# Altium integrated library TI Logic Flip-Flop.IntLib: 904 symbols (part 14 of 21)
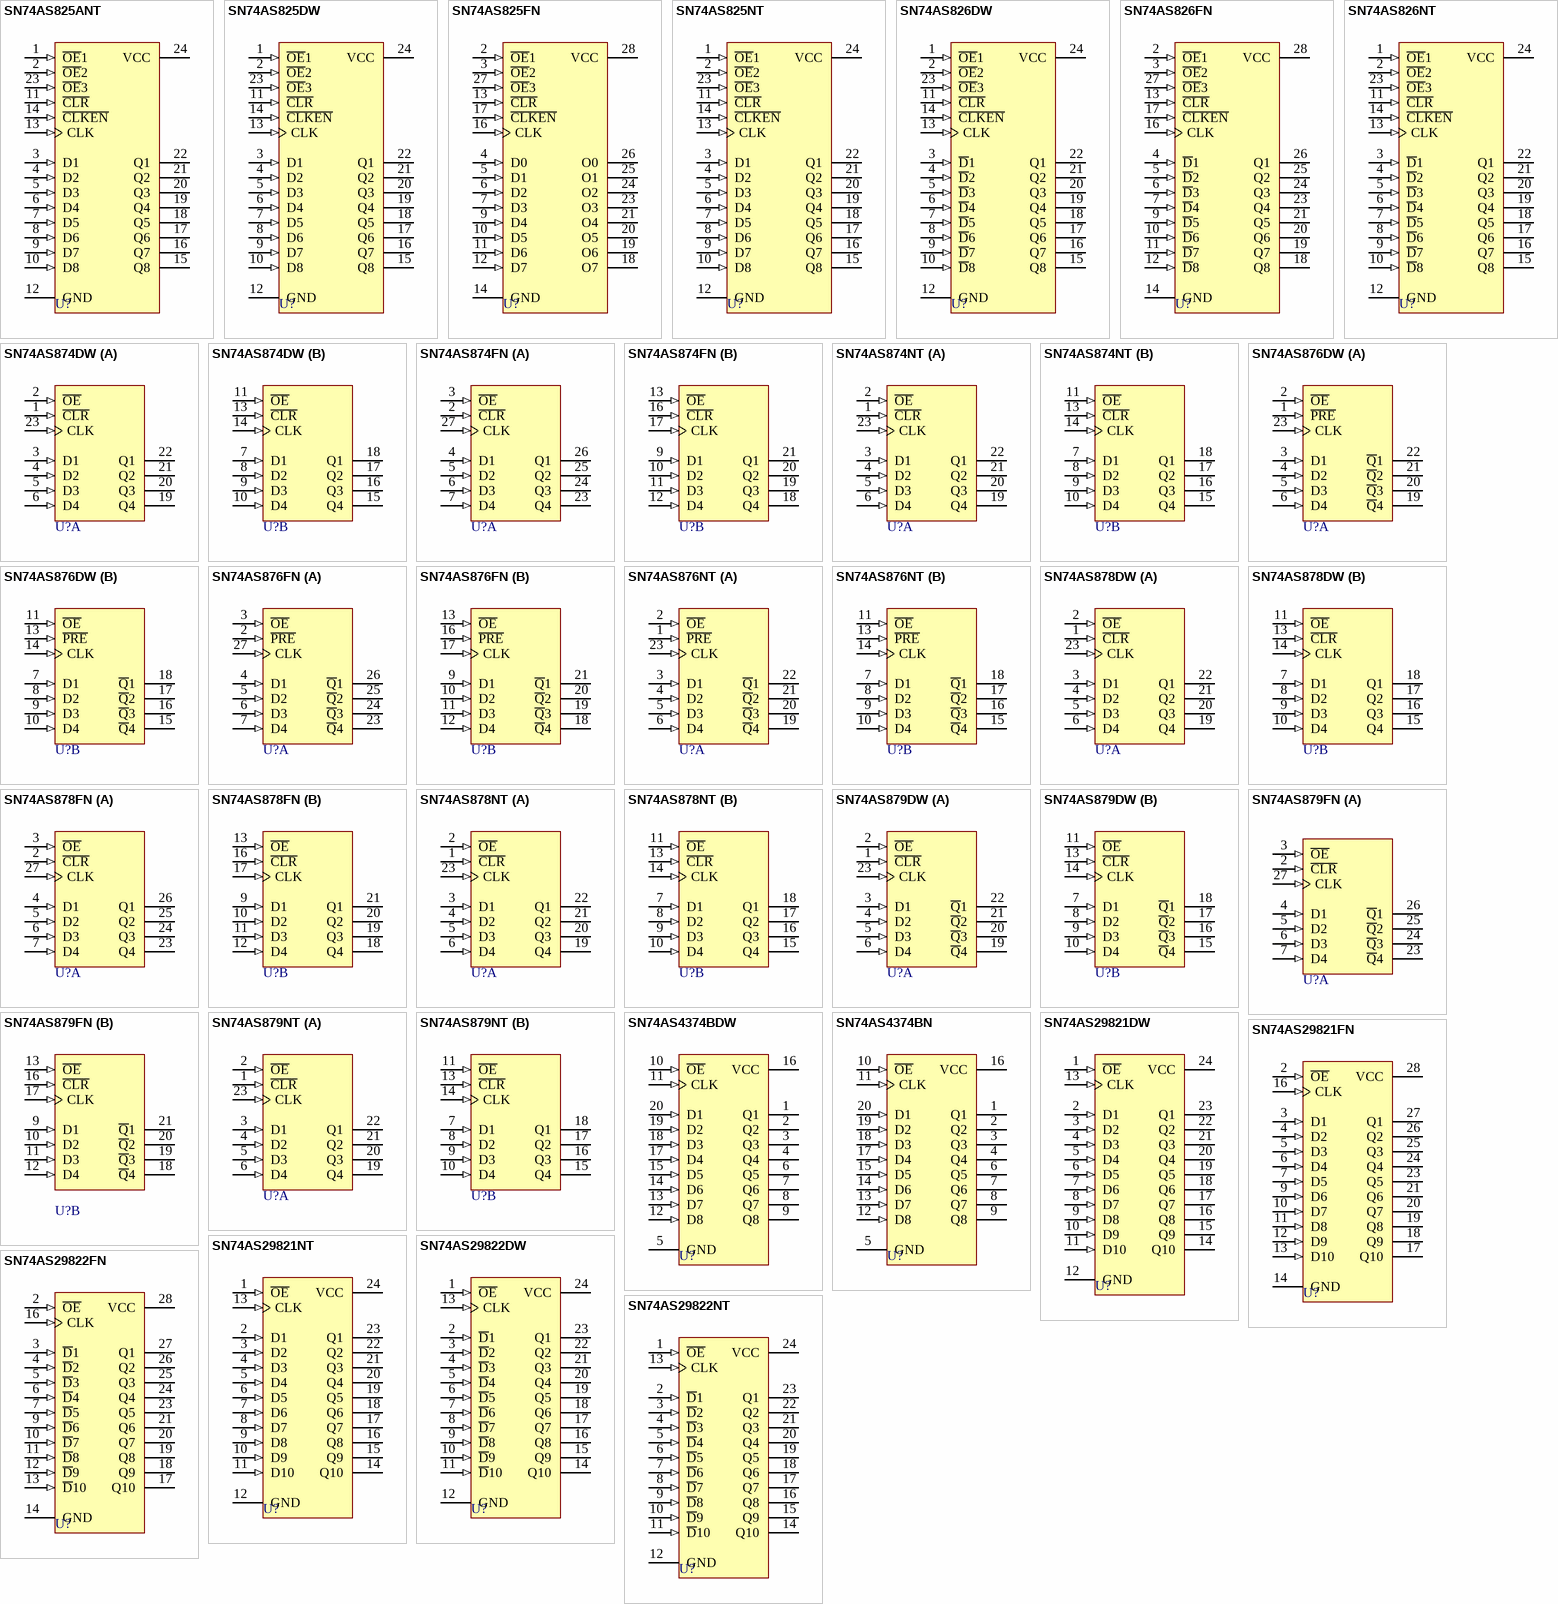
[diagram p48: symbols SN74AS825ANT to SN74AS29822NT]

## SN74AS878DW
designator U?
Dual 4-Bit D-Type Edge-Triggered Flip-Flop with 3-State Outputs; ComponentAvailability: Obsolete; Published: 8-Jun-2000; LatestRevisionDate: 13-Apr-2006; LatestRevisionNote: IPC-7351 Footprint Added.; DatasheetVersion: May-1986; PackageVersion: Mar-2000; PackageReference: DW024; Publisher: Altium Limited; PackageDescription: 24-Pin Plastic Small Outline Integrated Circuit 1.27 mm Pitch; Code_JEDEC: MS-013; ComponentLink1Description: Manufacturer Link; ComponentLink1URL: http://www.ti.com/; ComponentLink2Description: Datasheet; ComponentLink2URL: http://www-s.ti.com/sc/ds/sn74als878a.pdf; ComponentLink3Description: Discontinuation Notice; ComponentLink3URL: http://focus.ti.com/docs/prod/folders/print/sn74as878.html
footprint DW024_N (SOIC, 24-Leads, Body 15.4x7.5mm, Pitch 1.27mm, IPC Medium Density)
footprint DW024_L (SOIC, 24-Leads, Body 15.4x7.5mm, Pitch 1.27mm, IPC High Density)
footprint DW024_M (SOIC, 24-Leads, Body 15.4x7.5mm, Pitch 1.27mm, IPC Low Density)
3D model DW024 (24-Pin Plastic Small Outline Integrated Circuit 1.27 mm Pitch)
signal-integrity model SN74AS878DW
pins on every part: 12 GND (power) hidden to GND, 24 VCC (power) hidden to VCC
part A pins: 1 ~{CLR} (in), 2 ~{OE} (in), 3 D1 (in), 4 D2 (in), 5 D3 (in), 6 D4 (in), 19 Q4 (hiz), 20 Q3 (hiz), 21 Q2 (hiz), 22 Q1 (hiz), 23 CLK (in)
part B pins: 7 D1 (in), 8 D2 (in), 9 D3 (in), 10 D4 (in), 11 ~{OE} (in), 13 ~{CLR} (in), 14 CLK (in), 15 Q4 (hiz), 16 Q3 (hiz), 17 Q2 (hiz), 18 Q1 (hiz)

## SN74AS878FN
designator U?
Dual 4-Bit D-Type Edge-Triggered Flip-Flop with 3-State Outputs; Note: Pins 1, 8, 15, and 22 are not connected; Published: 8-Jun-2000; LatestRevisionDate: 13-Apr-2006; LatestRevisionNote: IPC-7351 Footprint Added.; DatasheetVersion: May-1986; PackageVersion: Oct-1994; PackageReference: FN028; Publisher: Altium Limited; PackageDescription: 28-Pin Leaded Chip Carrier 1.27 mm Pitch; Code_JEDEC: MS-018; Code_IPC: PLCC-28; ComponentLink1Description: Manufacturer Link; ComponentLink1URL: http://www.ti.com/; ComponentLink2Description: Datasheet; ComponentLink2URL: http://focus.ti.com/lit/ds/sdas062a/sdas062a.pdf
footprint FN028_N (Leaded Chip Carrier, 28-Leads, Body 11.5x11.5mm, Pitch 1.27mm, IPC Medium Density)
footprint FN028_L (Leaded Chip Carrier, 28-Leads, Body 11.5x11.5mm, Pitch 1.27mm, IPC High Density)
footprint FN028_M (Leaded Chip Carrier, 28-Leads, Body 11.5x11.5mm, Pitch 1.27mm, IPC Low Density)
3D model SN74AS878-FN028 (28-Pin Leaded Chip Carrier 1.27 mm Pitch)
signal-integrity model SN74AS878FN
pins on every part: 14 GND (power) hidden to GND, 28 VCC (power) hidden to VCC
part A pins: 2 ~{CLR} (in), 3 ~{OE} (in), 4 D1 (in), 5 D2 (in), 6 D3 (in), 7 D4 (in), 23 Q4 (hiz), 24 Q3 (hiz), 25 Q2 (hiz), 26 Q1 (hiz), 27 CLK (in)
part B pins: 9 D1 (in), 10 D2 (in), 11 D3 (in), 12 D4 (in), 13 ~{OE} (in), 16 ~{CLR} (in), 17 CLK (in), 18 Q4 (hiz), 19 Q3 (hiz), 20 Q2 (hiz), 21 Q1 (hiz)

## SN74AS878NT
designator U?
Dual 4-Bit D-Type Edge-Triggered Flip-Flop with 3-State Outputs; ComponentAvailability: Obsolete; Published: 8-Jun-2000; LatestRevisionDate: 04-Mar-2005; LatestRevisionNote: Stylized 3D Model Added.; DatasheetVersion: May-1986; PackageVersion: Oct-1994; PackageReference: NT024; Publisher: Altium Limited; PackageDescription: DIP; 24 Leads; Row Spacing 7.62 mm; Pitch 2.54 mm; Code_JEDEC: MS-001-AF; ComponentLink1Description: Manufacturer Link; ComponentLink1URL: http://www.ti.com/; ComponentLink2Description: Datasheet; ComponentLink2URL: http://www-s.ti.com/sc/ds/sn74als878a.pdf; ComponentLink3Description: Discontinuation Notice; ComponentLink3URL: http://focus.ti.com/docs/prod/folders/print/sn74as878.html
footprint NT024 (DIP; 24 Leads; Row Spacing 7.62 mm; Pitch 2.54 mm)
3D model JT024 (DIP; 24 Leads; Row Spacing 7.62 mm; Pitch 2.54 mm)
signal-integrity model SN74AS878NT
pins on every part: 12 GND (power) hidden to GND, 24 VCC (power) hidden to VCC
part A pins: 1 ~{CLR} (in), 2 ~{OE} (in), 3 D1 (in), 4 D2 (in), 5 D3 (in), 6 D4 (in), 19 Q4 (hiz), 20 Q3 (hiz), 21 Q2 (hiz), 22 Q1 (hiz), 23 CLK (in)
part B pins: 7 D1 (in), 8 D2 (in), 9 D3 (in), 10 D4 (in), 11 ~{OE} (in), 13 ~{CLR} (in), 14 CLK (in), 15 Q4 (hiz), 16 Q3 (hiz), 17 Q2 (hiz), 18 Q1 (hiz)

## SN74AS879DW
designator U?
Dual 4-Bit D-Type Edge-Triggered Flip-Flop with 3-State Outputs; Published: 8-Jun-2000; LatestRevisionDate: 13-Apr-2006; LatestRevisionNote: IPC-7351 Footprint Added.; DatasheetVersion: May-1986; PackageVersion: Mar-2000; PackageReference: DW024; Publisher: Altium Limited; PackageDescription: 24-Pin Plastic Small Outline Integrated Circuit 1.27 mm Pitch; Code_JEDEC: MS-013; ComponentLink1Description: Manufacturer Link; ComponentLink1URL: http://www.ti.com/; ComponentLink2Description: Datasheet; ComponentLink2URL: http://focus.ti.com/lit/ds/sdas062a/sdas062a.pdf
footprint DW024_N (SOIC, 24-Leads, Body 15.4x7.5mm, Pitch 1.27mm, IPC Medium Density)
footprint DW024_L (SOIC, 24-Leads, Body 15.4x7.5mm, Pitch 1.27mm, IPC High Density)
footprint DW024_M (SOIC, 24-Leads, Body 15.4x7.5mm, Pitch 1.27mm, IPC Low Density)
3D model DW024 (24-Pin Plastic Small Outline Integrated Circuit 1.27 mm Pitch)
signal-integrity model SN74AS879DW
pins on every part: 12 GND (power) hidden to GND, 24 VCC (power) hidden to VCC
part A pins: 1 ~{CLR} (in), 2 ~{OE} (in), 3 D1 (in), 4 D2 (in), 5 D3 (in), 6 D4 (in), 19 ~{Q}4 (hiz), 20 ~{Q}3 (hiz), 21 ~{Q}2 (hiz), 22 ~{Q}1 (hiz), 23 CLK (in)
part B pins: 7 D1 (in), 8 D2 (in), 9 D3 (in), 10 D4 (in), 11 ~{OE} (in), 13 ~{CLR} (in), 14 CLK (in), 15 ~{Q}4 (hiz), 16 ~{Q}3 (hiz), 17 ~{Q}2 (hiz), 18 ~{Q}1 (hiz)

## SN74AS879FN
designator U?
Dual 4-Bit D-Type Edge-Triggered Flip-Flop with 3-State Outputs; Note: Pins 1, 8, 15, and 22 are not connected; Published: 8-Jun-2000; LatestRevisionDate: 13-Apr-2006; LatestRevisionNote: IPC-7351 Footprint Added.; DatasheetVersion: May-1986; PackageVersion: Oct-1994; PackageReference: FN028; Publisher: Altium Limited; PackageDescription: 28-Pin Leaded Chip Carrier 1.27 mm Pitch; Code_JEDEC: MS-018; Code_IPC: PLCC-28; ComponentLink1Description: Manufacturer Link; ComponentLink1URL: http://www.ti.com/; ComponentLink2Description: Datasheet; ComponentLink2URL: http://focus.ti.com/lit/ds/sdas062a/sdas062a.pdf
footprint FN028_N (Leaded Chip Carrier, 28-Leads, Body 11.5x11.5mm, Pitch 1.27mm, IPC Medium Density)
footprint FN028_L (Leaded Chip Carrier, 28-Leads, Body 11.5x11.5mm, Pitch 1.27mm, IPC High Density)
footprint FN028_M (Leaded Chip Carrier, 28-Leads, Body 11.5x11.5mm, Pitch 1.27mm, IPC Low Density)
3D model SN74AS879-FN028 (28-Pin Leaded Chip Carrier 1.27 mm Pitch)
signal-integrity model SN74AS879FN
pins on every part: 14 GND (power) hidden to GND, 28 VCC (power) hidden to VCC
part A pins: 2 ~{CLR} (in), 3 ~{OE} (in), 4 D1 (in), 5 D2 (in), 6 D3 (in), 7 D4 (in), 23 ~{Q}4 (hiz), 24 ~{Q}3 (hiz), 25 ~{Q}2 (hiz), 26 ~{Q}1 (hiz), 27 CLK (in)
part B pins: 9 D1 (in), 10 D2 (in), 11 D3 (in), 12 D4 (in), 13 ~{OE} (in), 16 ~{CLR} (in), 17 CLK (in), 18 ~{Q}4 (hiz), 19 ~{Q}3 (hiz), 20 ~{Q}2 (hiz), 21 ~{Q}1 (hiz)

## SN74AS879NT
designator U?
Dual 4-Bit D-Type Edge-Triggered Flip-Flop with 3-State Outputs; ComponentAvailability: Obsolete; Published: 8-Jun-2000; LatestRevisionDate: 04-Mar-2005; LatestRevisionNote: Stylized 3D Model Added.; DatasheetVersion: May-1986; PackageVersion: Oct-1994; PackageReference: NT024; Publisher: Altium Limited; PackageDescription: DIP; 24 Leads; Row Spacing 7.62 mm; Pitch 2.54 mm; Code_JEDEC: MS-001-AF; ComponentLink1Description: Manufacturer Link; ComponentLink1URL: http://www.ti.com/; ComponentLink2Description: Datasheet; ComponentLink2URL: http://www-s.ti.com/sc/ds/sn74als878a.pdf; ComponentLink3Description: Discontinuation Notice; ComponentLink3URL: http://focus.ti.com/docs/prod/folders/print/sn74as879.html
footprint NT024 (DIP; 24 Leads; Row Spacing 7.62 mm; Pitch 2.54 mm)
3D model JT024 (DIP; 24 Leads; Row Spacing 7.62 mm; Pitch 2.54 mm)
signal-integrity model SN74AS879NT
pins on every part: 12 GND (power) hidden to GND, 24 VCC (power) hidden to VCC
part A pins: 1 ~{CLR} (in), 2 ~{OE} (in), 3 D1 (in), 4 D2 (in), 5 D3 (in), 6 D4 (in), 19 Q4 (hiz), 20 Q3 (hiz), 21 Q2 (hiz), 22 Q1 (hiz), 23 CLK (in)
part B pins: 7 D1 (in), 8 D2 (in), 9 D3 (in), 10 D4 (in), 11 ~{OE} (in), 13 ~{CLR} (in), 14 CLK (in), 15 Q4 (hiz), 16 Q3 (hiz), 17 Q2 (hiz), 18 Q1 (hiz)

## SN74AS4374BDW
designator U?
Octal Edge-Triggered D-Type Dual-Rank Flip-Flop with 3-State Outputs; Published: 8-Jun-2000; LatestRevisionDate: 13-Apr-2006; LatestRevisionNote: IPC-7351 Footprint Added.; DatasheetVersion: Jan-1995; PackageVersion: Mar-2000; PackageReference: DW020; Publisher: Altium Limited; PackageDescription: 20-Pin Plastic Small Outline Integrated Circuit 1.27 mm Pitch; Code_JEDEC: MS-013; Code_IPC: SOIC127P1030-20; ComponentLink1Description: Manufacturer Link; ComponentLink1URL: http://www.ti.com/; ComponentLink2Description: Datasheet; ComponentLink2URL: http://www-s.ti.com/sc/ds/sn74as4374b.pdf
footprint DW020_N (SOIC, 20-Leads, Body 12.8x7.5mm, Pitch 1.27mm, IPC Medium Density)
footprint DW020_L (SOIC, 20-Leads, Body 12.8x7.5mm, Pitch 1.27mm, IPC High Density)
footprint DW020_M (SOIC, 20-Leads, Body 12.8x7.5mm, Pitch 1.27mm, IPC Low Density)
3D model DW020 (20-Pin Plastic Small Outline Integrated Circuit 1.27 mm Pitch)
signal-integrity model SN74AS4374BDW
pins: 1 Q1 (hiz), 2 Q2 (hiz), 3 Q3 (hiz), 4 Q4 (hiz), 5 GND (power), 6 Q5 (hiz), 7 Q6 (hiz), 8 Q7 (hiz), 9 Q8 (hiz), 10 ~{OE} (in), 11 CLK (in), 12 D8 (in), 13 D7 (in), 14 D6 (in), 15 D5 (in), 16 VCC (power), 17 D4 (in), 18 D3 (in), 19 D2 (in), 20 D1 (in)

## SN74AS4374BN
designator U?
Octal Edge-Triggered D-Type Dual-Rank Flip-Flop with 3-State Outputs; Published: 8-Jun-2000; LatestRevisionDate: 04-Mar-2005; LatestRevisionNote: Stylized 3D Model Added.; DatasheetVersion: Jan-1995; PackageVersion: Oct-1995; PackageReference: N020; Publisher: Altium Limited; PackageDescription: DIP; 20 Leads; Row Spacing 7.62 mm; Pitch 2.54 mm; ComponentLink1Description: Manufacturer Link; ComponentLink1URL: http://www.ti.com/; ComponentLink2Description: Datasheet; ComponentLink2URL: http://www-s.ti.com/sc/ds/sn74as4374b.pdf
footprint N020 (DIP; 20 Leads; Row Spacing 7.62 mm; Pitch 2.54 mm)
3D model J020 (DIP; 20 Leads; Row Spacing 7.62 mm; Pitch 2.54 mm)
signal-integrity model SN74AS4374BN
pins: 1 Q1 (hiz), 2 Q2 (hiz), 3 Q3 (hiz), 4 Q4 (hiz), 5 GND (power), 6 Q5 (hiz), 7 Q6 (hiz), 8 Q7 (hiz), 9 Q8 (hiz), 10 ~{OE} (in), 11 CLK (in), 12 D8 (in), 13 D7 (in), 14 D6 (in), 15 D5 (in), 16 VCC (power), 17 D4 (in), 18 D3 (in), 19 D2 (in), 20 D1 (in)

## SN74AS29821DW
designator U?
10-Bit Bus-Interface Flip-Flop with 3-State Outputs; Published: 8-Jun-2000; LatestRevisionDate: 13-Apr-2006; LatestRevisionNote: IPC-7351 Footprint Added.; DatasheetVersion: May-1986; PackageVersion: Mar-2000; PackageReference: DW024; Publisher: Altium Limited; PackageDescription: 24-Pin Plastic Small Outline Integrated Circuit 1.27 mm Pitch; Code_JEDEC: MS-013; ComponentLink1Description: Manufacturer Link; ComponentLink1URL: http://www.ti.com/
footprint DW024_N (SOIC, 24-Leads, Body 15.4x7.5mm, Pitch 1.27mm, IPC Medium Density)
footprint DW024_L (SOIC, 24-Leads, Body 15.4x7.5mm, Pitch 1.27mm, IPC High Density)
footprint DW024_M (SOIC, 24-Leads, Body 15.4x7.5mm, Pitch 1.27mm, IPC Low Density)
3D model DW024 (24-Pin Plastic Small Outline Integrated Circuit 1.27 mm Pitch)
signal-integrity model SN74AS29821DW
pins: 1 ~{OE} (in), 2 D1 (in), 3 D2 (in), 4 D3 (in), 5 D4 (in), 6 D5 (in), 7 D6 (in), 8 D7 (in), 9 D8 (in), 10 D9 (in), 11 D10 (in), 12 GND (power), 13 CLK (in), 14 Q10 (hiz), 15 Q9 (hiz), 16 Q8 (hiz), 17 Q7 (hiz), 18 Q6 (hiz), 19 Q5 (hiz), 20 Q4 (hiz), 21 Q3 (hiz), 22 Q2 (hiz), 23 Q1 (hiz), 24 VCC (power)

## SN74AS29821FN
designator U?
10-Bit Bus-Interface Flip-Flop with 3-State Outputs; Note: Pins 1, 8, 15, and 22 are not connected; Published: 8-Jun-2000; LatestRevisionDate: 13-Apr-2006; LatestRevisionNote: IPC-7351 Footprint Added.; DatasheetVersion: May-1986; PackageVersion: Oct-1994; PackageReference: FN028; Publisher: Altium Limited; PackageDescription: 28-Pin Leaded Chip Carrier 1.27 mm Pitch; Code_JEDEC: MS-018; Code_IPC: PLCC-28; ComponentLink1Description: Manufacturer Link; ComponentLink1URL: http://www.ti.com/
footprint FN028_N (Leaded Chip Carrier, 28-Leads, Body 11.5x11.5mm, Pitch 1.27mm, IPC Medium Density)
footprint FN028_L (Leaded Chip Carrier, 28-Leads, Body 11.5x11.5mm, Pitch 1.27mm, IPC High Density)
footprint FN028_M (Leaded Chip Carrier, 28-Leads, Body 11.5x11.5mm, Pitch 1.27mm, IPC Low Density)
3D model SN74AS29821-FN028 (28-Pin Leaded Chip Carrier 1.27 mm Pitch)
signal-integrity model SN74AS29821FN
pins: 2 ~{OE} (in), 3 D1 (in), 4 D2 (in), 5 D3 (in), 6 D4 (in), 7 D5 (in), 9 D6 (in), 10 D7 (in), 11 D8 (in), 12 D9 (in), 13 D10 (in), 14 GND (power), 16 CLK (in), 17 Q10 (hiz), 18 Q9 (hiz), 19 Q8 (hiz), 20 Q7 (hiz), 21 Q6 (hiz), 23 Q5 (hiz), 24 Q4 (hiz), 25 Q3 (hiz), 26 Q2 (hiz), 27 Q1 (hiz), 28 VCC (power)

## SN74AS29821NT
designator U?
10-Bit Bus-Interface Flip-Flop with 3-State Outputs; Published: 8-Jun-2000; LatestRevisionDate: 04-Mar-2005; LatestRevisionNote: Stylized 3D Model Added.; DatasheetVersion: May-1986; PackageVersion: Oct-1994; PackageReference: NT024D; Publisher: Altium Limited; PackageDescription: DIP; 24 Leads; Row Spacing 7.62 mm; Pitch 2.54 mm; Code_JEDEC: MS-001-AF; ComponentLink1Description: Manufacturer Link; ComponentLink1URL: http://www.ti.com/
footprint NT024D (DIP; 24 Leads; Row Spacing 7.62 mm; Pitch 2.54 mm)
3D model JT024 (DIP; 24 Leads; Row Spacing 7.62 mm; Pitch 2.54 mm)
signal-integrity model SN74AS29821NT
pins: 1 ~{OE} (in), 2 D1 (in), 3 D2 (in), 4 D3 (in), 5 D4 (in), 6 D5 (in), 7 D6 (in), 8 D7 (in), 9 D8 (in), 10 D9 (in), 11 D10 (in), 12 GND (power), 13 CLK (in), 14 Q10 (hiz), 15 Q9 (hiz), 16 Q8 (hiz), 17 Q7 (hiz), 18 Q6 (hiz), 19 Q5 (hiz), 20 Q4 (hiz), 21 Q3 (hiz), 22 Q2 (hiz), 23 Q1 (hiz), 24 VCC (power)

## SN74AS29822DW
designator U?
10-Bit Bus-Interface Flip-Flop with 3-State Outputs; Published: 8-Jun-2000; LatestRevisionDate: 13-Apr-2006; LatestRevisionNote: IPC-7351 Footprint Added.; DatasheetVersion: May-1986; PackageVersion: Mar-2000; PackageReference: DW024; Publisher: Altium Limited; PackageDescription: 24-Pin Plastic Small Outline Integrated Circuit 1.27 mm Pitch; Code_JEDEC: MS-013; ComponentLink1Description: Manufacturer Link; ComponentLink1URL: http://www.ti.com/
footprint DW024_N (SOIC, 24-Leads, Body 15.4x7.5mm, Pitch 1.27mm, IPC Medium Density)
footprint DW024_L (SOIC, 24-Leads, Body 15.4x7.5mm, Pitch 1.27mm, IPC High Density)
footprint DW024_M (SOIC, 24-Leads, Body 15.4x7.5mm, Pitch 1.27mm, IPC Low Density)
3D model DW024 (24-Pin Plastic Small Outline Integrated Circuit 1.27 mm Pitch)
signal-integrity model SN74AS29822DW
pins: 1 ~{OE} (in), 2 ~{D}1 (in), 3 ~{D}2 (in), 4 ~{D}3 (in), 5 ~{D}4 (in), 6 ~{D}5 (in), 7 ~{D}6 (in), 8 ~{D}7 (in), 9 ~{D}8 (in), 10 ~{D}9 (in), 11 ~{D}10 (in), 12 GND (power), 13 CLK (in), 14 Q10 (hiz), 15 Q9 (hiz), 16 Q8 (hiz), 17 Q7 (hiz), 18 Q6 (hiz), 19 Q5 (hiz), 20 Q4 (hiz), 21 Q3 (hiz), 22 Q2 (hiz), 23 Q1 (hiz), 24 VCC (power)

## SN74AS29822FN
designator U?
10-Bit Bus-Interface Flip-Flop with 3-State Outputs; Note: Pins 1, 8, 15, and 22 are not connected; Published: 8-Jun-2000; LatestRevisionDate: 13-Apr-2006; LatestRevisionNote: IPC-7351 Footprint Added.; DatasheetVersion: May-1986; PackageVersion: Oct-1994; PackageReference: FN028; Publisher: Altium Limited; PackageDescription: 28-Pin Leaded Chip Carrier 1.27 mm Pitch; Code_JEDEC: MS-018; Code_IPC: PLCC-28; ComponentLink1Description: Manufacturer Link; ComponentLink1URL: http://www.ti.com/
footprint FN028_N (Leaded Chip Carrier, 28-Leads, Body 11.5x11.5mm, Pitch 1.27mm, IPC Medium Density)
footprint FN028_L (Leaded Chip Carrier, 28-Leads, Body 11.5x11.5mm, Pitch 1.27mm, IPC High Density)
footprint FN028_M (Leaded Chip Carrier, 28-Leads, Body 11.5x11.5mm, Pitch 1.27mm, IPC Low Density)
3D model SN74AS29822-FN028 (28-Pin Leaded Chip Carrier 1.27 mm Pitch)
signal-integrity model SN74AS29822FN
pins: 2 ~{OE} (in), 3 ~{D}1 (in), 4 ~{D}2 (in), 5 ~{D}3 (in), 6 ~{D}4 (in), 7 ~{D}5 (in), 9 ~{D}6 (in), 10 ~{D}7 (in), 11 ~{D}8 (in), 12 ~{D}9 (in), 13 ~{D}10 (in), 14 GND (power), 16 CLK (in), 17 Q10 (hiz), 18 Q9 (hiz), 19 Q8 (hiz), 20 Q7 (hiz), 21 Q6 (hiz), 23 Q5 (hiz), 24 Q4 (hiz), 25 Q3 (hiz), 26 Q2 (hiz), 27 Q1 (hiz), 28 VCC (power)

## SN74AS29822NT
designator U?
10-Bit Bus-Interface Flip-Flop with 3-State Outputs; Published: 8-Jun-2000; LatestRevisionDate: 04-Mar-2005; LatestRevisionNote: Stylized 3D Model Added.; DatasheetVersion: May-1986; PackageVersion: Oct-1994; PackageReference: NT024D; Publisher: Altium Limited; PackageDescription: DIP; 24 Leads; Row Spacing 7.62 mm; Pitch 2.54 mm; Code_JEDEC: MS-001-AF; ComponentLink1Description: Manufacturer Link; ComponentLink1URL: http://www.ti.com/
footprint NT024D (DIP; 24 Leads; Row Spacing 7.62 mm; Pitch 2.54 mm)
3D model JT024 (DIP; 24 Leads; Row Spacing 7.62 mm; Pitch 2.54 mm)
signal-integrity model SN74AS29822NT
pins: 1 ~{OE} (in), 2 ~{D}1 (in), 3 ~{D}2 (in), 4 ~{D}3 (in), 5 ~{D}4 (in), 6 ~{D}5 (in), 7 ~{D}6 (in), 8 ~{D}7 (in), 9 ~{D}8 (in), 10 ~{D}9 (in), 11 ~{D}10 (in), 12 GND (power), 13 CLK (in), 14 Q10 (hiz), 15 Q9 (hiz), 16 Q8 (hiz), 17 Q7 (hiz), 18 Q6 (hiz), 19 Q5 (hiz), 20 Q4 (hiz), 21 Q3 (hiz), 22 Q2 (hiz), 23 Q1 (hiz), 24 VCC (power)

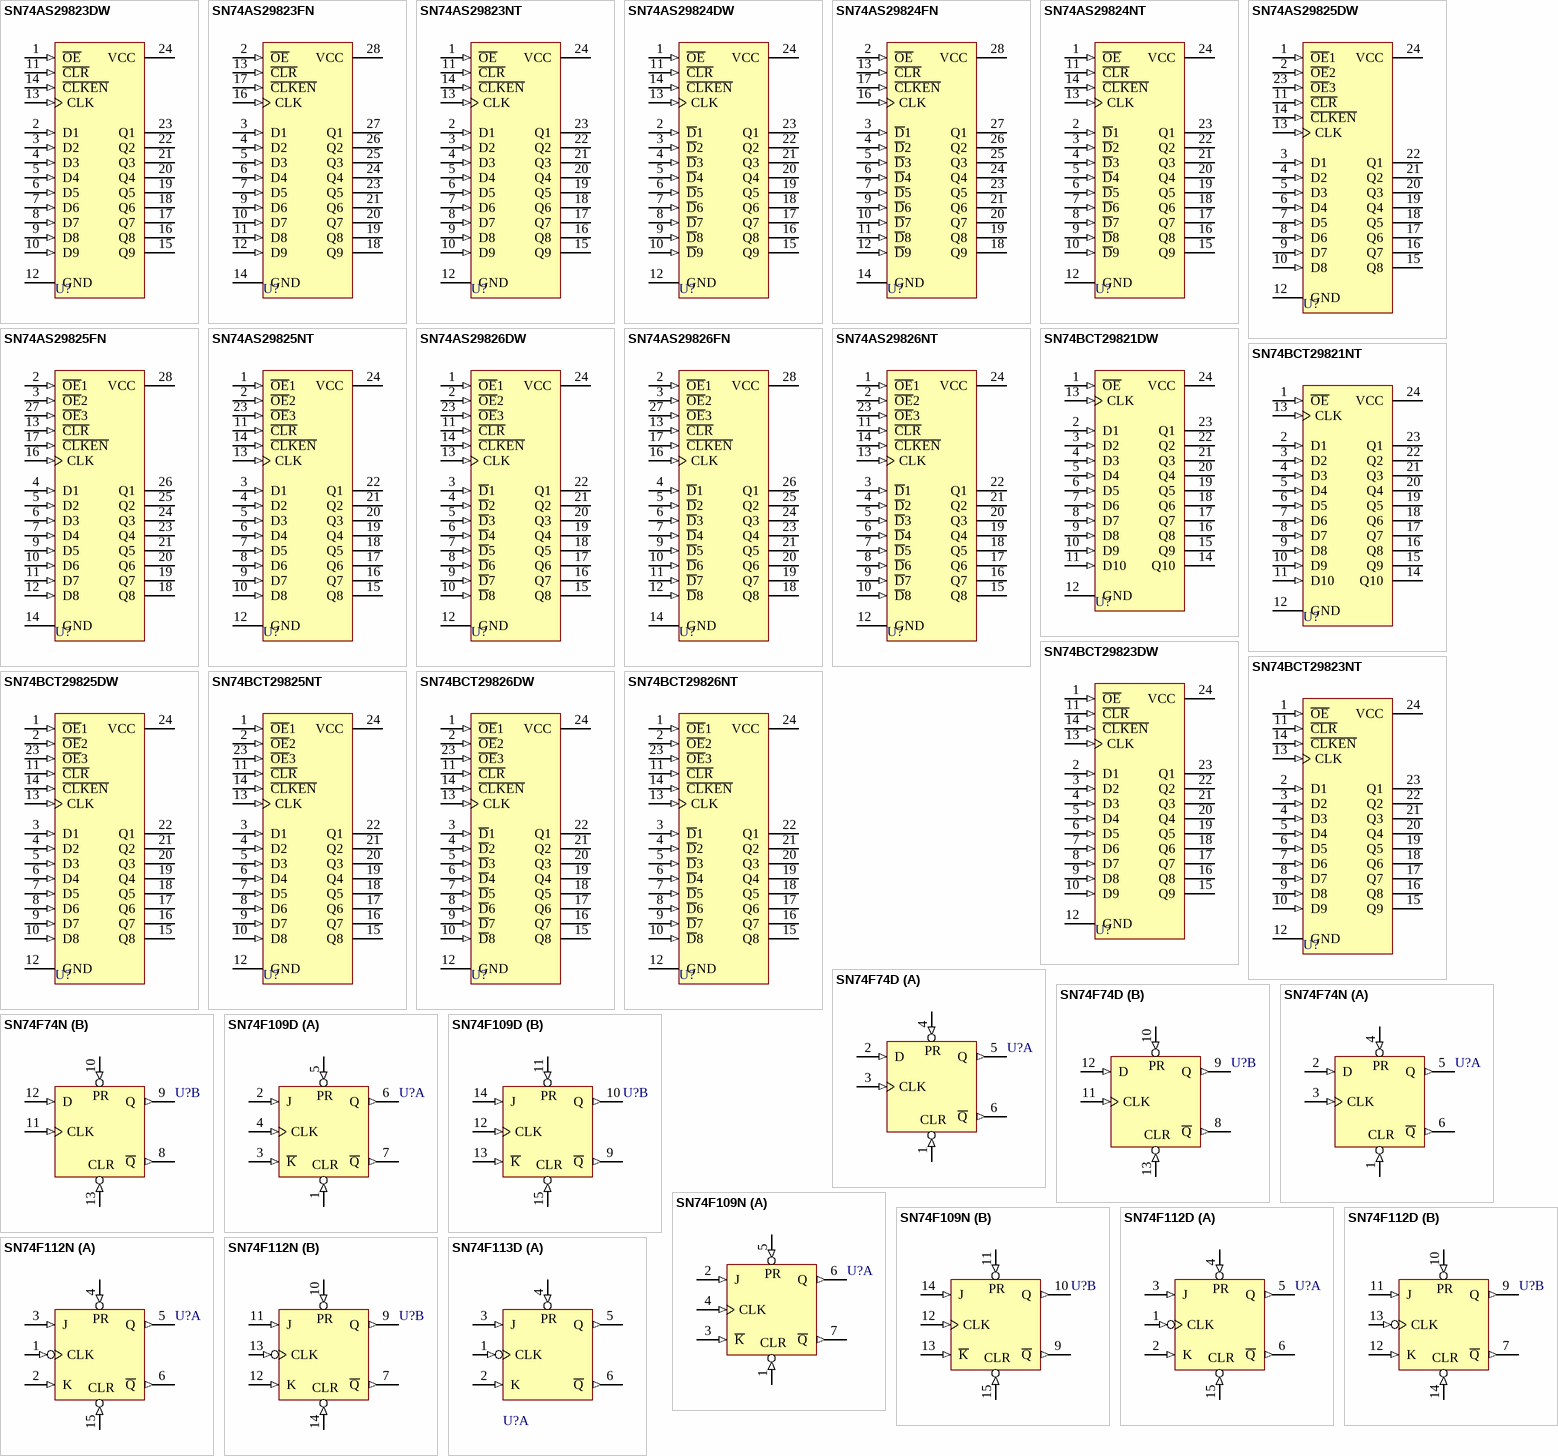
[diagram p23: symbols SN74AS29823DW to SN74F113D]

## SN74AS29823DW
designator U?
9-Bit Bus-Interface Flip-Flop with 3-State Outputs; Published: 8-Jun-2000; LatestRevisionDate: 13-Apr-2006; LatestRevisionNote: IPC-7351 Footprint Added.; DatasheetVersion: May-1986; PackageVersion: Mar-2000; PackageReference: DW024; Publisher: Altium Limited; PackageDescription: 24-Pin Plastic Small Outline Integrated Circuit 1.27 mm Pitch; Code_JEDEC: MS-013; ComponentLink1Description: Manufacturer Link; ComponentLink1URL: http://www.ti.com/
footprint DW024_N (SOIC, 24-Leads, Body 15.4x7.5mm, Pitch 1.27mm, IPC Medium Density)
footprint DW024_L (SOIC, 24-Leads, Body 15.4x7.5mm, Pitch 1.27mm, IPC High Density)
footprint DW024_M (SOIC, 24-Leads, Body 15.4x7.5mm, Pitch 1.27mm, IPC Low Density)
3D model DW024 (24-Pin Plastic Small Outline Integrated Circuit 1.27 mm Pitch)
signal-integrity model SN74AS29823DW
pins: 1 ~{OE} (in), 2 D1 (in), 3 D2 (in), 4 D3 (in), 5 D4 (in), 6 D5 (in), 7 D6 (in), 8 D7 (in), 9 D8 (in), 10 D9 (in), 11 ~{CLR} (in), 12 GND (power), 13 CLK (in), 14 ~{CLKEN} (in), 15 Q9 (hiz), 16 Q8 (hiz), 17 Q7 (hiz), 18 Q6 (hiz), 19 Q5 (hiz), 20 Q4 (hiz), 21 Q3 (hiz), 22 Q2 (hiz), 23 Q1 (hiz), 24 VCC (power)

## SN74AS29823FN
designator U?
9-Bit Bus-Interface Flip-Flop with 3-State Outputs; Note: Pins 1, 8, 15, and 22 are not connected; Published: 8-Jun-2000; LatestRevisionDate: 13-Apr-2006; LatestRevisionNote: IPC-7351 Footprint Added.; DatasheetVersion: May-1986; PackageVersion: Oct-1994; PackageReference: FN028; Publisher: Altium Limited; PackageDescription: 28-Pin Leaded Chip Carrier 1.27 mm Pitch; Code_JEDEC: MS-018; Code_IPC: PLCC-28; ComponentLink1Description: Manufacturer Link; ComponentLink1URL: http://www.ti.com/
footprint FN028_N (Leaded Chip Carrier, 28-Leads, Body 11.5x11.5mm, Pitch 1.27mm, IPC Medium Density)
footprint FN028_L (Leaded Chip Carrier, 28-Leads, Body 11.5x11.5mm, Pitch 1.27mm, IPC High Density)
footprint FN028_M (Leaded Chip Carrier, 28-Leads, Body 11.5x11.5mm, Pitch 1.27mm, IPC Low Density)
3D model SN74AS29823-FN028 (28-Pin Leaded Chip Carrier 1.27 mm Pitch)
signal-integrity model SN74AS29823FN
pins: 2 ~{OE} (in), 3 D1 (in), 4 D2 (in), 5 D3 (in), 6 D4 (in), 7 D5 (in), 9 D6 (in), 10 D7 (in), 11 D8 (in), 12 D9 (in), 13 ~{CLR} (in), 14 GND (power), 16 CLK (in), 17 ~{CLKEN} (in), 18 Q9 (hiz), 19 Q8 (hiz), 20 Q7 (hiz), 21 Q6 (hiz), 23 Q5 (hiz), 24 Q4 (hiz), 25 Q3 (hiz), 26 Q2 (hiz), 27 Q1 (hiz), 28 VCC (power)

## SN74AS29823NT
designator U?
9-Bit Bus-Interface Flip-Flop with 3-State Outputs; Published: 8-Jun-2000; LatestRevisionDate: 04-Mar-2005; LatestRevisionNote: Stylized 3D Model Added.; DatasheetVersion: May-1986; PackageVersion: Oct-1994; PackageReference: NT024D; Publisher: Altium Limited; PackageDescription: DIP; 24 Leads; Row Spacing 7.62 mm; Pitch 2.54 mm; Code_JEDEC: MS-001-AF; ComponentLink1Description: Manufacturer Link; ComponentLink1URL: http://www.ti.com/
footprint NT024D (DIP; 24 Leads; Row Spacing 7.62 mm; Pitch 2.54 mm)
3D model JT024 (DIP; 24 Leads; Row Spacing 7.62 mm; Pitch 2.54 mm)
signal-integrity model SN74AS29823NT
pins: 1 ~{OE} (in), 2 D1 (in), 3 D2 (in), 4 D3 (in), 5 D4 (in), 6 D5 (in), 7 D6 (in), 8 D7 (in), 9 D8 (in), 10 D9 (in), 11 ~{CLR} (in), 12 GND (power), 13 CLK (in), 14 ~{CLKEN} (in), 15 Q9 (hiz), 16 Q8 (hiz), 17 Q7 (hiz), 18 Q6 (hiz), 19 Q5 (hiz), 20 Q4 (hiz), 21 Q3 (hiz), 22 Q2 (hiz), 23 Q1 (hiz), 24 VCC (power)

## SN74AS29824DW
designator U?
9-Bit Bus-Interface Flip-Flop with 3-State Outputs; Published: 8-Jun-2000; LatestRevisionDate: 13-Apr-2006; LatestRevisionNote: IPC-7351 Footprint Added.; DatasheetVersion: May-1986; PackageVersion: Mar-2000; PackageReference: DW024; Publisher: Altium Limited; PackageDescription: 24-Pin Plastic Small Outline Integrated Circuit 1.27 mm Pitch; Code_JEDEC: MS-013; ComponentLink1Description: Manufacturer Link; ComponentLink1URL: http://www.ti.com/
footprint DW024_N (SOIC, 24-Leads, Body 15.4x7.5mm, Pitch 1.27mm, IPC Medium Density)
footprint DW024_L (SOIC, 24-Leads, Body 15.4x7.5mm, Pitch 1.27mm, IPC High Density)
footprint DW024_M (SOIC, 24-Leads, Body 15.4x7.5mm, Pitch 1.27mm, IPC Low Density)
3D model DW024 (24-Pin Plastic Small Outline Integrated Circuit 1.27 mm Pitch)
signal-integrity model SN74AS29824DW
pins: 1 ~{OE} (in), 2 ~{D}1 (in), 3 ~{D}2 (in), 4 ~{D}3 (in), 5 ~{D}4 (in), 6 ~{D}5 (in), 7 ~{D}6 (in), 8 ~{D}7 (in), 9 ~{D}8 (in), 10 ~{D}9 (in), 11 ~{CLR} (in), 12 GND (power), 13 CLK (in), 14 ~{CLKEN} (in), 15 Q9 (hiz), 16 Q8 (hiz), 17 Q7 (hiz), 18 Q6 (hiz), 19 Q5 (hiz), 20 Q4 (hiz), 21 Q3 (hiz), 22 Q2 (hiz), 23 Q1 (hiz), 24 VCC (power)

## SN74AS29824FN
designator U?
9-Bit Bus-Interface Flip-Flop with 3-State Outputs; Note: Pins 1, 8, 15, and 22 are not connected; Published: 8-Jun-2000; LatestRevisionDate: 13-Apr-2006; LatestRevisionNote: IPC-7351 Footprint Added.; DatasheetVersion: May-1986; PackageVersion: Oct-1994; PackageReference: FN028; Publisher: Altium Limited; PackageDescription: 28-Pin Leaded Chip Carrier 1.27 mm Pitch; Code_JEDEC: MS-018; Code_IPC: PLCC-28; ComponentLink1Description: Manufacturer Link; ComponentLink1URL: http://www.ti.com/
footprint FN028_N (Leaded Chip Carrier, 28-Leads, Body 11.5x11.5mm, Pitch 1.27mm, IPC Medium Density)
footprint FN028_L (Leaded Chip Carrier, 28-Leads, Body 11.5x11.5mm, Pitch 1.27mm, IPC High Density)
footprint FN028_M (Leaded Chip Carrier, 28-Leads, Body 11.5x11.5mm, Pitch 1.27mm, IPC Low Density)
3D model SN74AS29824-FN028 (28-Pin Leaded Chip Carrier 1.27 mm Pitch)
signal-integrity model SN74AS29824FN
pins: 2 ~{OE} (in), 3 ~{D}1 (in), 4 ~{D}2 (in), 5 ~{D}3 (in), 6 ~{D}4 (in), 7 ~{D}5 (in), 9 ~{D}6 (in), 10 ~{D}7 (in), 11 ~{D}8 (in), 12 ~{D}9 (in), 13 ~{CLR} (in), 14 GND (power), 16 CLK (in), 17 ~{CLKEN} (in), 18 Q9 (hiz), 19 Q8 (hiz), 20 Q7 (hiz), 21 Q6 (hiz), 23 Q5 (hiz), 24 Q4 (hiz), 25 Q3 (hiz), 26 Q2 (hiz), 27 Q1 (hiz), 28 VCC (power)

## SN74AS29824NT
designator U?
9-Bit Bus-Interface Flip-Flop with 3-State Outputs; Published: 8-Jun-2000; LatestRevisionDate: 04-Mar-2005; LatestRevisionNote: Stylized 3D Model Added.; DatasheetVersion: May-1986; PackageVersion: Oct-1994; PackageReference: NT024D; Publisher: Altium Limited; PackageDescription: DIP; 24 Leads; Row Spacing 7.62 mm; Pitch 2.54 mm; Code_JEDEC: MS-001-AF; ComponentLink1Description: Manufacturer Link; ComponentLink1URL: http://www.ti.com/
footprint NT024D (DIP; 24 Leads; Row Spacing 7.62 mm; Pitch 2.54 mm)
3D model JT024 (DIP; 24 Leads; Row Spacing 7.62 mm; Pitch 2.54 mm)
signal-integrity model SN74AS29824NT
pins: 1 ~{OE} (in), 2 ~{D}1 (in), 3 ~{D}2 (in), 4 ~{D}3 (in), 5 ~{D}4 (in), 6 ~{D}5 (in), 7 ~{D}6 (in), 8 ~{D}7 (in), 9 ~{D}8 (in), 10 ~{D}9 (in), 11 ~{CLR} (in), 12 GND (power), 13 CLK (in), 14 ~{CLKEN} (in), 15 Q9 (hiz), 16 Q8 (hiz), 17 Q7 (hiz), 18 Q6 (hiz), 19 Q5 (hiz), 20 Q4 (hiz), 21 Q3 (hiz), 22 Q2 (hiz), 23 Q1 (hiz), 24 VCC (power)

## SN74AS29825DW
designator U?
8-Bit Bus-Interface Flip-Flop with 3-State Outputs; Published: 8-Jun-2000; LatestRevisionDate: 13-Apr-2006; LatestRevisionNote: IPC-7351 Footprint Added.; DatasheetVersion: May-1986; PackageVersion: Mar-2000; PackageReference: DW024; Publisher: Altium Limited; PackageDescription: 24-Pin Plastic Small Outline Integrated Circuit 1.27 mm Pitch; Code_JEDEC: MS-013; ComponentLink1Description: Manufacturer Link; ComponentLink1URL: http://www.ti.com/
footprint DW024_N (SOIC, 24-Leads, Body 15.4x7.5mm, Pitch 1.27mm, IPC Medium Density)
footprint DW024_L (SOIC, 24-Leads, Body 15.4x7.5mm, Pitch 1.27mm, IPC High Density)
footprint DW024_M (SOIC, 24-Leads, Body 15.4x7.5mm, Pitch 1.27mm, IPC Low Density)
3D model DW024 (24-Pin Plastic Small Outline Integrated Circuit 1.27 mm Pitch)
signal-integrity model SN74AS29825DW
pins: 1 ~{OE}1 (in), 2 ~{OE}2 (in), 3 D1 (in), 4 D2 (in), 5 D3 (in), 6 D4 (in), 7 D5 (in), 8 D6 (in), 9 D7 (in), 10 D8 (in), 11 ~{CLR} (in), 12 GND (power), 13 CLK (in), 14 ~{CLKEN} (in), 15 Q8 (hiz), 16 Q7 (hiz), 17 Q6 (hiz), 18 Q5 (hiz), 19 Q4 (hiz), 20 Q3 (hiz), 21 Q2 (hiz), 22 Q1 (hiz), 23 ~{OE}3 (in), 24 VCC (power)

## SN74AS29825FN
designator U?
8-Bit Bus-Interface Flip-Flop with 3-State Outputs; Note: Pins 1, 8, 15, and 22 are not connected; Published: 8-Jun-2000; LatestRevisionDate: 13-Apr-2006; LatestRevisionNote: IPC-7351 Footprint Added.; DatasheetVersion: May-1986; PackageVersion: Oct-1994; PackageReference: FN028; Publisher: Altium Limited; PackageDescription: 28-Pin Leaded Chip Carrier 1.27 mm Pitch; Code_JEDEC: MS-018; Code_IPC: PLCC-28; ComponentLink1Description: Manufacturer Link; ComponentLink1URL: http://www.ti.com/
footprint FN028_N (Leaded Chip Carrier, 28-Leads, Body 11.5x11.5mm, Pitch 1.27mm, IPC Medium Density)
footprint FN028_L (Leaded Chip Carrier, 28-Leads, Body 11.5x11.5mm, Pitch 1.27mm, IPC High Density)
footprint FN028_M (Leaded Chip Carrier, 28-Leads, Body 11.5x11.5mm, Pitch 1.27mm, IPC Low Density)
3D model SN74AS29825-FN028 (28-Pin Leaded Chip Carrier 1.27 mm Pitch)
signal-integrity model SN74AS29825FN
pins: 2 ~{OE}1 (in), 3 ~{OE}2 (in), 4 D1 (in), 5 D2 (in), 6 D3 (in), 7 D4 (in), 9 D5 (in), 10 D6 (in), 11 D7 (in), 12 D8 (in), 13 ~{CLR} (in), 14 GND (power), 16 CLK (in), 17 ~{CLKEN} (in), 18 Q8 (hiz), 19 Q7 (hiz), 20 Q6 (hiz), 21 Q5 (hiz), 23 Q4 (hiz), 24 Q3 (hiz), 25 Q2 (hiz), 26 Q1 (hiz), 27 ~{OE}3 (in), 28 VCC (power)

## SN74AS29825NT
designator U?
8-Bit Bus-Interface Flip-Flop with 3-State Outputs; Published: 8-Jun-2000; LatestRevisionDate: 04-Mar-2005; LatestRevisionNote: Stylized 3D Model Added.; DatasheetVersion: May-1986; PackageVersion: Oct-1994; PackageReference: NT024D; Publisher: Altium Limited; PackageDescription: DIP; 24 Leads; Row Spacing 7.62 mm; Pitch 2.54 mm; Code_JEDEC: MS-001-AF; ComponentLink1Description: Manufacturer Link; ComponentLink1URL: http://www.ti.com/
footprint NT024D (DIP; 24 Leads; Row Spacing 7.62 mm; Pitch 2.54 mm)
3D model JT024 (DIP; 24 Leads; Row Spacing 7.62 mm; Pitch 2.54 mm)
signal-integrity model SN74AS29825NT
pins: 1 ~{OE}1 (in), 2 ~{OE}2 (in), 3 D1 (in), 4 D2 (in), 5 D3 (in), 6 D4 (in), 7 D5 (in), 8 D6 (in), 9 D7 (in), 10 D8 (in), 11 ~{CLR} (in), 12 GND (power), 13 CLK (in), 14 ~{CLKEN} (in), 15 Q8 (hiz), 16 Q7 (hiz), 17 Q6 (hiz), 18 Q5 (hiz), 19 Q4 (hiz), 20 Q3 (hiz), 21 Q2 (hiz), 22 Q1 (hiz), 23 ~{OE}3 (in), 24 VCC (power)

## SN74AS29826DW
designator U?
8-Bit Bus-Interface Flip-Flop with 3-State Outputs; Published: 8-Jun-2000; LatestRevisionDate: 13-Apr-2006; LatestRevisionNote: IPC-7351 Footprint Added.; DatasheetVersion: May-1986; PackageVersion: Mar-2000; PackageReference: DW024; Publisher: Altium Limited; PackageDescription: 24-Pin Plastic Small Outline Integrated Circuit 1.27 mm Pitch; Code_JEDEC: MS-013; ComponentLink1Description: Manufacturer Link; ComponentLink1URL: http://www.ti.com/
footprint DW024_N (SOIC, 24-Leads, Body 15.4x7.5mm, Pitch 1.27mm, IPC Medium Density)
footprint DW024_L (SOIC, 24-Leads, Body 15.4x7.5mm, Pitch 1.27mm, IPC High Density)
footprint DW024_M (SOIC, 24-Leads, Body 15.4x7.5mm, Pitch 1.27mm, IPC Low Density)
3D model DW024 (24-Pin Plastic Small Outline Integrated Circuit 1.27 mm Pitch)
signal-integrity model SN74AS29826DW
pins: 1 ~{OE}1 (in), 2 ~{OE}2 (in), 3 ~{D}1 (in), 4 ~{D}2 (in), 5 ~{D}3 (in), 6 ~{D}4 (in), 7 ~{D}5 (in), 8 ~{D}6 (in), 9 ~{D}7 (in), 10 ~{D}8 (in), 11 ~{CLR} (in), 12 GND (power), 13 CLK (in), 14 ~{CLKEN} (in), 15 Q8 (hiz), 16 Q7 (hiz), 17 Q6 (hiz), 18 Q5 (hiz), 19 Q4 (hiz), 20 Q3 (hiz), 21 Q2 (hiz), 22 Q1 (hiz), 23 ~{OE}3 (in), 24 VCC (power)

## SN74AS29826FN
designator U?
8-Bit Bus-Interface Flip-Flop with 3-State Outputs; Note: Pins 1, 8, 15, and 22 are not connected; Published: 8-Jun-2000; LatestRevisionDate: 13-Apr-2006; LatestRevisionNote: IPC-7351 Footprint Added.; DatasheetVersion: May-1986; PackageVersion: Oct-1994; PackageReference: FN028; Publisher: Altium Limited; PackageDescription: 28-Pin Leaded Chip Carrier 1.27 mm Pitch; Code_JEDEC: MS-018; Code_IPC: PLCC-28; ComponentLink1Description: Manufacturer Link; ComponentLink1URL: http://www.ti.com/
footprint FN028_N (Leaded Chip Carrier, 28-Leads, Body 11.5x11.5mm, Pitch 1.27mm, IPC Medium Density)
footprint FN028_L (Leaded Chip Carrier, 28-Leads, Body 11.5x11.5mm, Pitch 1.27mm, IPC High Density)
footprint FN028_M (Leaded Chip Carrier, 28-Leads, Body 11.5x11.5mm, Pitch 1.27mm, IPC Low Density)
3D model SN74AS29826-FN028 (28-Pin Leaded Chip Carrier 1.27 mm Pitch)
signal-integrity model SN74AS29826FN
pins: 2 ~{OE}1 (in), 3 ~{OE}2 (in), 4 ~{D}1 (in), 5 ~{D}2 (in), 6 ~{D}3 (in), 7 ~{D}4 (in), 9 ~{D}5 (in), 10 ~{D}6 (in), 11 ~{D}7 (in), 12 ~{D}8 (in), 13 ~{CLR} (in), 14 GND (power), 16 CLK (in), 17 ~{CLKEN} (in), 18 Q8 (hiz), 19 Q7 (hiz), 20 Q6 (hiz), 21 Q5 (hiz), 23 Q4 (hiz), 24 Q3 (hiz), 25 Q2 (hiz), 26 Q1 (hiz), 27 ~{OE}3 (in), 28 VCC (power)

## SN74AS29826NT
designator U?
8-Bit Bus-Interface Flip-Flop with 3-State Outputs; Published: 8-Jun-2000; LatestRevisionDate: 04-Mar-2005; LatestRevisionNote: Stylized 3D Model Added.; DatasheetVersion: May-1986; PackageVersion: Oct-1994; PackageReference: NT024D; Publisher: Altium Limited; PackageDescription: DIP; 24 Leads; Row Spacing 7.62 mm; Pitch 2.54 mm; Code_JEDEC: MS-001-AF; ComponentLink1Description: Manufacturer Link; ComponentLink1URL: http://www.ti.com/
footprint NT024D (DIP; 24 Leads; Row Spacing 7.62 mm; Pitch 2.54 mm)
3D model JT024 (DIP; 24 Leads; Row Spacing 7.62 mm; Pitch 2.54 mm)
signal-integrity model SN74AS29826NT
pins: 1 ~{OE}1 (in), 2 ~{OE}2 (in), 3 ~{D}1 (in), 4 ~{D}2 (in), 5 ~{D}3 (in), 6 ~{D}4 (in), 7 ~{D}5 (in), 8 ~{D}6 (in), 9 ~{D}7 (in), 10 ~{D}8 (in), 11 ~{CLR} (in), 12 GND (power), 13 CLK (in), 14 ~{CLKEN} (in), 15 Q8 (hiz), 16 Q7 (hiz), 17 Q6 (hiz), 18 Q5 (hiz), 19 Q4 (hiz), 20 Q3 (hiz), 21 Q2 (hiz), 22 Q1 (hiz), 23 ~{OE}3 (in), 24 VCC (power)

## SN74BCT29821DW
designator U?
10-Bit Bus-Interface Flip-Flop with 3-State Outputs; Published: 8-Jun-2000; LatestRevisionDate: 13-Apr-2006; LatestRevisionNote: IPC-7351 Footprint Added.; DatasheetVersion: Nov-1993; PackageVersion: Mar-2000; PackageReference: DW024; Publisher: Altium Limited; PackageDescription: 24-Pin Plastic Small Outline Integrated Circuit 1.27 mm Pitch; Code_JEDEC: MS-013; ComponentLink1Description: Manufacturer Link; ComponentLink1URL: http://www.ti.com/; ComponentLink2Description: Datasheet; ComponentLink2URL: http://www-s.ti.com/sc/ds/sn74bct29821.pdf
footprint DW024_N (SOIC, 24-Leads, Body 15.4x7.5mm, Pitch 1.27mm, IPC Medium Density)
footprint DW024_L (SOIC, 24-Leads, Body 15.4x7.5mm, Pitch 1.27mm, IPC High Density)
footprint DW024_M (SOIC, 24-Leads, Body 15.4x7.5mm, Pitch 1.27mm, IPC Low Density)
3D model DW024 (24-Pin Plastic Small Outline Integrated Circuit 1.27 mm Pitch)
signal-integrity model SN74BCT29821DW
pins: 1 ~{OE} (in), 2 D1 (in), 3 D2 (in), 4 D3 (in), 5 D4 (in), 6 D5 (in), 7 D6 (in), 8 D7 (in), 9 D8 (in), 10 D9 (in), 11 D10 (in), 12 GND (power), 13 CLK (in), 14 Q10 (hiz), 15 Q9 (hiz), 16 Q8 (hiz), 17 Q7 (hiz), 18 Q6 (hiz), 19 Q5 (hiz), 20 Q4 (hiz), 21 Q3 (hiz), 22 Q2 (hiz), 23 Q1 (hiz), 24 VCC (power)

## SN74BCT29821NT
designator U?
10-Bit Bus-Interface Flip-Flop with 3-State Outputs; Published: 8-Jun-2000; LatestRevisionDate: 04-Mar-2005; LatestRevisionNote: Stylized 3D Model Added.; DatasheetVersion: Nov-1993; PackageVersion: Oct-1994; PackageReference: NT024; Publisher: Altium Limited; PackageDescription: DIP; 24 Leads; Row Spacing 7.62 mm; Pitch 2.54 mm; Code_JEDEC: MS-001-AF; ComponentLink1Description: Manufacturer Link; ComponentLink1URL: http://www.ti.com/; ComponentLink2Description: Datasheet; ComponentLink2URL: http://www-s.ti.com/sc/ds/sn74bct29821.pdf
footprint NT024 (DIP; 24 Leads; Row Spacing 7.62 mm; Pitch 2.54 mm)
3D model JT024 (DIP; 24 Leads; Row Spacing 7.62 mm; Pitch 2.54 mm)
signal-integrity model SN74BCT29821NT
pins: 1 ~{OE} (in), 2 D1 (in), 3 D2 (in), 4 D3 (in), 5 D4 (in), 6 D5 (in), 7 D6 (in), 8 D7 (in), 9 D8 (in), 10 D9 (in), 11 D10 (in), 12 GND (power), 13 CLK (in), 14 Q10 (hiz), 15 Q9 (hiz), 16 Q8 (hiz), 17 Q7 (hiz), 18 Q6 (hiz), 19 Q5 (hiz), 20 Q4 (hiz), 21 Q3 (hiz), 22 Q2 (hiz), 23 Q1 (hiz), 24 VCC (power)

## SN74BCT29823DW
designator U?
9-Bit Bus-Interface Flip-Flop with 3-State Outputs; ComponentAvailability: Obsolete; Published: 8-Jun-2000; LatestRevisionDate: 13-Apr-2006; LatestRevisionNote: IPC-7351 Footprint Added.; DatasheetVersion: Nov-1993; PackageVersion: Mar-2000; PackageReference: DW024; Publisher: Altium Limited; PackageDescription: 24-Pin Plastic Small Outline Integrated Circuit 1.27 mm Pitch; Code_JEDEC: MS-013; ComponentLink1Description: Manufacturer Link; ComponentLink1URL: http://www.ti.com/; ComponentLink2Description: Datasheet; ComponentLink2URL: http://www-s.ti.com/sc/ds/sn74bct29823.pdf
footprint DW024_N (SOIC, 24-Leads, Body 15.4x7.5mm, Pitch 1.27mm, IPC Medium Density)
footprint DW024_L (SOIC, 24-Leads, Body 15.4x7.5mm, Pitch 1.27mm, IPC High Density)
footprint DW024_M (SOIC, 24-Leads, Body 15.4x7.5mm, Pitch 1.27mm, IPC Low Density)
3D model DW024 (24-Pin Plastic Small Outline Integrated Circuit 1.27 mm Pitch)
signal-integrity model SN74BCT29823DW
pins: 1 ~{OE} (in), 2 D1 (in), 3 D2 (in), 4 D3 (in), 5 D4 (in), 6 D5 (in), 7 D6 (in), 8 D7 (in), 9 D8 (in), 10 D9 (in), 11 ~{CLR} (in), 12 GND (power), 13 CLK (in), 14 ~{CLKEN} (in), 15 Q9 (hiz), 16 Q8 (hiz), 17 Q7 (hiz), 18 Q6 (hiz), 19 Q5 (hiz), 20 Q4 (hiz), 21 Q3 (hiz), 22 Q2 (hiz), 23 Q1 (hiz), 24 VCC (power)

## SN74BCT29823NT
designator U?
9-Bit Bus-Interface Flip-Flop with 3-State Outputs; ComponentAvailability: Obsolete; Published: 8-Jun-2000; LatestRevisionDate: 04-Mar-2005; LatestRevisionNote: Stylized 3D Model Added.; DatasheetVersion: Nov-1993; PackageVersion: Oct-1994; PackageReference: NT024; Publisher: Altium Limited; PackageDescription: DIP; 24 Leads; Row Spacing 7.62 mm; Pitch 2.54 mm; Code_JEDEC: MS-001-AF; ComponentLink1Description: Manufacturer Link; ComponentLink1URL: http://www.ti.com/; ComponentLink2Description: Datasheet; ComponentLink2URL: http://www-s.ti.com/sc/ds/sn74bct29823.pdf
footprint NT024 (DIP; 24 Leads; Row Spacing 7.62 mm; Pitch 2.54 mm)
3D model JT024 (DIP; 24 Leads; Row Spacing 7.62 mm; Pitch 2.54 mm)
signal-integrity model SN74BCT29823NT
pins: 1 ~{OE} (in), 2 D1 (in), 3 D2 (in), 4 D3 (in), 5 D4 (in), 6 D5 (in), 7 D6 (in), 8 D7 (in), 9 D8 (in), 10 D9 (in), 11 ~{CLR} (in), 12 GND (power), 13 CLK (in), 14 ~{CLKEN} (in), 15 Q9 (hiz), 16 Q8 (hiz), 17 Q7 (hiz), 18 Q6 (hiz), 19 Q5 (hiz), 20 Q4 (hiz), 21 Q3 (hiz), 22 Q2 (hiz), 23 Q1 (hiz), 24 VCC (power)

## SN74BCT29825DW
designator U?
8-Bit Bus-Interface Flip-Flop with 3-State Outputs; Published: 8-Jun-2000; LatestRevisionDate: 13-Apr-2006; LatestRevisionNote: IPC-7351 Footprint Added.; DatasheetVersion: Nov-1993; PackageVersion: Mar-2000; PackageReference: DW024; Publisher: Altium Limited; PackageDescription: 24-Pin Plastic Small Outline Integrated Circuit 1.27 mm Pitch; Code_JEDEC: MS-013; ComponentLink1Description: Manufacturer Link; ComponentLink1URL: http://www.ti.com/; ComponentLink2Description: Datasheet; ComponentLink2URL: http://www-s.ti.com/sc/ds/sn74bct29825.pdf
footprint DW024_N (SOIC, 24-Leads, Body 15.4x7.5mm, Pitch 1.27mm, IPC Medium Density)
footprint DW024_L (SOIC, 24-Leads, Body 15.4x7.5mm, Pitch 1.27mm, IPC High Density)
footprint DW024_M (SOIC, 24-Leads, Body 15.4x7.5mm, Pitch 1.27mm, IPC Low Density)
3D model DW024 (24-Pin Plastic Small Outline Integrated Circuit 1.27 mm Pitch)
signal-integrity model SN74BCT29825DW
pins: 1 ~{OE}1 (in), 2 ~{OE}2 (in), 3 D1 (in), 4 D2 (in), 5 D3 (in), 6 D4 (in), 7 D5 (in), 8 D6 (in), 9 D7 (in), 10 D8 (in), 11 ~{CLR} (in), 12 GND (power), 13 CLK (in), 14 ~{CLKEN} (in), 15 Q8 (hiz), 16 Q7 (hiz), 17 Q6 (hiz), 18 Q5 (hiz), 19 Q4 (hiz), 20 Q3 (hiz), 21 Q2 (hiz), 22 Q1 (hiz), 23 ~{OE}3 (in), 24 VCC (power)

## SN74BCT29825NT
designator U?
8-Bit Bus-Interface Flip-Flop with 3-State Outputs; Published: 8-Jun-2000; LatestRevisionDate: 04-Mar-2005; LatestRevisionNote: Stylized 3D Model Added.; DatasheetVersion: Nov-1993; PackageVersion: Oct-1994; PackageReference: NT024; Publisher: Altium Limited; PackageDescription: DIP; 24 Leads; Row Spacing 7.62 mm; Pitch 2.54 mm; Code_JEDEC: MS-001-AF; ComponentLink1Description: Manufacturer Link; ComponentLink1URL: http://www.ti.com/; ComponentLink2Description: Datasheet; ComponentLink2URL: http://www-s.ti.com/sc/ds/sn74bct29825.pdf
footprint NT024 (DIP; 24 Leads; Row Spacing 7.62 mm; Pitch 2.54 mm)
3D model JT024 (DIP; 24 Leads; Row Spacing 7.62 mm; Pitch 2.54 mm)
signal-integrity model SN74BCT29825NT
pins: 1 ~{OE}1 (in), 2 ~{OE}2 (in), 3 D1 (in), 4 D2 (in), 5 D3 (in), 6 D4 (in), 7 D5 (in), 8 D6 (in), 9 D7 (in), 10 D8 (in), 11 ~{CLR} (in), 12 GND (power), 13 CLK (in), 14 ~{CLKEN} (in), 15 Q8 (hiz), 16 Q7 (hiz), 17 Q6 (hiz), 18 Q5 (hiz), 19 Q4 (hiz), 20 Q3 (hiz), 21 Q2 (hiz), 22 Q1 (hiz), 23 ~{OE}3 (in), 24 VCC (power)

## SN74BCT29826DW
designator U?
8-Bit Bus-Interface Flip-Flop with 3-State Outputs; ComponentAvailability: Obsolete; Published: 8-Jun-2000; LatestRevisionDate: 13-Apr-2006; LatestRevisionNote: IPC-7351 Footprint Added.; DatasheetVersion: Nov-1993; PackageVersion: Mar-2000; PackageReference: DW024; Publisher: Altium Limited; PackageDescription: 24-Pin Plastic Small Outline Integrated Circuit 1.27 mm Pitch; Code_JEDEC: MS-013; ComponentLink1Description: Manufacturer Link; ComponentLink1URL: http://www.ti.com/; ComponentLink2Description: Datasheet; ComponentLink2URL: http://www-s.ti.com/sc/ds/sn74bct29826.pdf; ComponentLink3Description: Discontinuation Notice; ComponentLink3URL: http://focus.ti.com/docs/prod/folders/print/sn74bct29826.html
footprint DW024_N (SOIC, 24-Leads, Body 15.4x7.5mm, Pitch 1.27mm, IPC Medium Density)
footprint DW024_L (SOIC, 24-Leads, Body 15.4x7.5mm, Pitch 1.27mm, IPC High Density)
footprint DW024_M (SOIC, 24-Leads, Body 15.4x7.5mm, Pitch 1.27mm, IPC Low Density)
3D model DW024 (24-Pin Plastic Small Outline Integrated Circuit 1.27 mm Pitch)
signal-integrity model SN74BCT29826DW
pins: 1 ~{OE}1 (in), 2 ~{OE}2 (in), 3 ~{D}1 (in), 4 ~{D}2 (in), 5 ~{D}3 (in), 6 ~{D}4 (in), 7 ~{D}5 (in), 8 ~{D}6 (in), 9 ~{D}7 (in), 10 ~{D}8 (in), 11 ~{CLR} (in), 12 GND (power), 13 CLK (in), 14 ~{CLKEN} (in), 15 Q8 (hiz), 16 Q7 (hiz), 17 Q6 (hiz), 18 Q5 (hiz), 19 Q4 (hiz), 20 Q3 (hiz), 21 Q2 (hiz), 22 Q1 (hiz), 23 ~{OE}3 (in), 24 VCC (power)

## SN74BCT29826NT
designator U?
8-Bit Bus-Interface Flip-Flop with 3-State Outputs; ComponentAvailability: Obsolete; Published: 8-Jun-2000; LatestRevisionDate: 04-Mar-2005; LatestRevisionNote: Stylized 3D Model Added.; DatasheetVersion: Nov-1993; PackageVersion: Oct-1994; PackageReference: NT024; Publisher: Altium Limited; PackageDescription: DIP; 24 Leads; Row Spacing 7.62 mm; Pitch 2.54 mm; Code_JEDEC: MS-001-AF; ComponentLink1Description: Manufacturer Link; ComponentLink1URL: http://www.ti.com/; ComponentLink2Description: Datasheet; ComponentLink2URL: http://www-s.ti.com/sc/ds/sn74bct29826.pdf; ComponentLink3Description: Discontinuation Notice; ComponentLink3URL: http://focus.ti.com/docs/prod/folders/print/sn74bct29826.html
footprint NT024 (DIP; 24 Leads; Row Spacing 7.62 mm; Pitch 2.54 mm)
3D model JT024 (DIP; 24 Leads; Row Spacing 7.62 mm; Pitch 2.54 mm)
signal-integrity model SN74BCT29826NT
pins: 1 ~{OE}1 (in), 2 ~{OE}2 (in), 3 ~{D}1 (in), 4 ~{D}2 (in), 5 ~{D}3 (in), 6 ~{D}4 (in), 7 ~{D}5 (in), 8 ~{D}6 (in), 9 ~{D}7 (in), 10 ~{D}8 (in), 11 ~{CLR} (in), 12 GND (power), 13 CLK (in), 14 ~{CLKEN} (in), 15 Q8 (hiz), 16 Q7 (hiz), 17 Q6 (hiz), 18 Q5 (hiz), 19 Q4 (hiz), 20 Q3 (hiz), 21 Q2 (hiz), 22 Q1 (hiz), 23 ~{OE}3 (in), 24 VCC (power)

## SN74F74D
designator U?
Dual Positive-Edge-Triggered D-Type Flip-Flop with Clear and Preset; Published: 8-Jun-2000; LatestRevisionDate: 13-Apr-2006; LatestRevisionNote: IPC-7351 Footprint Added.; DatasheetVersion: Oct-1993; PackageVersion: Jan-1998; PackageReference: D014; Publisher: Altium Limited; PackageDescription: 14-Pin Small Outline Integrated Circuit 1.27 mm Pitch; Code_IPC: SOIC127P600-14; ComponentLink1Description: Manufacturer Link; ComponentLink1URL: http://www.ti.com/; ComponentLink2Description: Datasheet; ComponentLink2URL: http://www-s.ti.com/sc/ds/sn74f74.pdf
footprint D014_N (SOIC, 14-Leads, Body 8.7x3.9mm, Pitch 1.27mm, IPC Medium Density)
footprint D014_L (SOIC, 14-Leads, Body 8.7x3.9mm, Pitch 1.27mm, IPC High Density)
footprint D014_M (SOIC, 14-Leads, Body 8.7x3.9mm, Pitch 1.27mm, IPC Low Density)
3D model D014 (14-Pin Small Outline Integrated Circuit 1.27 mm Pitch)
simulation model SN74F74 (SIMCODE)
signal-integrity model SN74F74D
pins on every part: 7 GND (power) hidden to GND, 14 VCC (power) hidden to VCC
part A pins: 1 CLR (in), 2 D (in), 3 CLK (in), 4 PR (in), 5 Q (out), 6 ~{Q} (out)
part B pins: 8 ~{Q} (out), 9 Q (out), 10 PR (in), 11 CLK (in), 12 D (in), 13 CLR (in)

## SN74F74N
designator U?
Dual Positive-Edge-Triggered D-Type Flip-Flop with Clear and Preset; Published: 8-Jun-2000; LatestRevisionDate: 04-Mar-2005; LatestRevisionNote: Stylized 3D Model Added.; DatasheetVersion: Oct-1993; PackageVersion: Oct-1995; PackageReference: N014; Publisher: Altium Limited; PackageDescription: DIP; 14 Leads; Row Spacing 7.62 mm; Pitch 2.54 mm; ComponentLink1Description: Manufacturer Link; ComponentLink1URL: http://www.ti.com/; ComponentLink2Description: Datasheet; ComponentLink2URL: http://www-s.ti.com/sc/ds/sn74f74.pdf
footprint N014 (DIP; 14 Leads; Row Spacing 7.62 mm; Pitch 2.54 mm)
3D model N014 (DIP; 14 Leads; Row Spacing 7.62 mm; Pitch 2.54 mm)
simulation model SN74F74 (SIMCODE)
signal-integrity model SN74F74N
pins on every part: 7 GND (power) hidden to GND, 14 VCC (power) hidden to VCC
part A pins: 1 CLR (in), 2 D (in), 3 CLK (in), 4 PR (in), 5 Q (out), 6 ~{Q} (out)
part B pins: 8 ~{Q} (out), 9 Q (out), 10 PR (in), 11 CLK (in), 12 D (in), 13 CLR (in)

## SN74F109D
designator U?
Dual J-K Positive-Edge-Triggered Flip-Flop with Clear and Preset; Published: 8-Jun-2000; LatestRevisionDate: 13-Apr-2006; LatestRevisionNote: IPC-7351 Footprint Added.; DatasheetVersion: Oct-1993; PackageVersion: Jan-1998; PackageReference: D016; Publisher: Altium Limited; PackageDescription: 16-Pin Small Outline Integrated Circuit 1.27 mm Pitch; Code_IPC: SOIC127P600-16; ComponentLink1Description: Manufacturer Link; ComponentLink1URL: http://www.ti.com/; ComponentLink2Description: Datasheet; ComponentLink2URL: http://www-s.ti.com/sc/ds/sn74f109.pdf
footprint D016_N (SOIC, 16-Leads, Body 9.9x3.9mm, Pitch 1.27mm, IPC Medium Density)
footprint D016_L (SOIC, 16-Leads, Body 9.9x3.9mm, Pitch 1.27mm, IPC High Density)
footprint D016_M (SOIC, 16-Leads, Body 9.9x3.9mm, Pitch 1.27mm, IPC Low Density)
3D model D016 (16-Pin Small Outline Integrated Circuit 1.27 mm Pitch)
simulation model SN74F109 (SIMCODE)
signal-integrity model SN74F109D
pins on every part: 8 GND (power) hidden to GND, 16 VCC (power) hidden to VCC
part A pins: 1 CLR (in), 2 J (in), 3 ~{K} (in), 4 CLK (in), 5 PR (in), 6 Q (out), 7 ~{Q} (out)
part B pins: 9 ~{Q} (out), 10 Q (out), 11 PR (in), 12 CLK (in), 13 ~{K} (in), 14 J (in), 15 CLR (in)

## SN74F109N
designator U?
Dual J-K Positive-Edge-Triggered Flip-Flop with Clear and Preset; Published: 8-Jun-2000; LatestRevisionDate: 04-Mar-2005; LatestRevisionNote: Stylized 3D Model Added.; DatasheetVersion: Oct-1993; PackageVersion: Oct-1995; PackageReference: N016; Publisher: Altium Limited; PackageDescription: DIP; 16 Leads; Row Spacing 7.62 mm; Pitch 2.54 mm; Code_JEDEC: MS-001-BB; ComponentLink1Description: Manufacturer Link; ComponentLink1URL: http://www.ti.com/; ComponentLink2Description: Datasheet; ComponentLink2URL: http://www-s.ti.com/sc/ds/sn74f109.pdf
footprint N016 (DIP; 16 Leads; Row Spacing 7.62 mm; Pitch 2.54 mm)
3D model N016 (DIP; 16 Leads; Row Spacing 7.62 mm; Pitch 2.54 mm)
simulation model SN74F109 (SIMCODE)
signal-integrity model SN74F109N
pins on every part: 8 GND (power) hidden to GND, 16 VCC (power) hidden to VCC
part A pins: 1 CLR (in), 2 J (in), 3 ~{K} (in), 4 CLK (in), 5 PR (in), 6 Q (out), 7 ~{Q} (out)
part B pins: 9 ~{Q} (out), 10 Q (out), 11 PR (in), 12 CLK (in), 13 ~{K} (in), 14 J (in), 15 CLR (in)

## SN74F112D
designator U?
Dual Negative-Edge-Triggered J-K Flip-Flop with Clear and Preset; Published: 8-Jun-2000; LatestRevisionDate: 13-Apr-2006; LatestRevisionNote: IPC-7351 Footprint Added.; DatasheetVersion: Oct-1993; PackageVersion: Jan-1998; PackageReference: D016; Publisher: Altium Limited; PackageDescription: 16-Pin Small Outline Integrated Circuit 1.27 mm Pitch; Code_IPC: SOIC127P600-16; ComponentLink1Description: Manufacturer Link; ComponentLink1URL: http://www.ti.com/; ComponentLink2Description: Datasheet; ComponentLink2URL: http://www-s.ti.com/sc/ds/sn74f112.pdf
footprint D016_N (SOIC, 16-Leads, Body 9.9x3.9mm, Pitch 1.27mm, IPC Medium Density)
footprint D016_L (SOIC, 16-Leads, Body 9.9x3.9mm, Pitch 1.27mm, IPC High Density)
footprint D016_M (SOIC, 16-Leads, Body 9.9x3.9mm, Pitch 1.27mm, IPC Low Density)
3D model D016 (16-Pin Small Outline Integrated Circuit 1.27 mm Pitch)
simulation model SN74F112 (SIMCODE)
signal-integrity model SN74F112D
pins on every part: 8 GND (power) hidden to GND, 16 VCC (power) hidden to VCC
part A pins: 1 CLK (in), 2 K (in), 3 J (in), 4 PR (in), 5 Q (out), 6 ~{Q} (out), 15 CLR (in)
part B pins: 7 ~{Q} (out), 9 Q (out), 10 PR (in), 11 J (in), 12 K (in), 13 CLK (in), 14 CLR (in)

## SN74F112N
designator U?
Dual Negative-Edge-Triggered J-K Flip-Flop with Clear and Preset; Published: 8-Jun-2000; LatestRevisionDate: 04-Mar-2005; LatestRevisionNote: Stylized 3D Model Added.; DatasheetVersion: Oct-1993; PackageVersion: Oct-1995; PackageReference: N016; Publisher: Altium Limited; PackageDescription: DIP; 16 Leads; Row Spacing 7.62 mm; Pitch 2.54 mm; Code_JEDEC: MS-001-BB; ComponentLink1Description: Manufacturer Link; ComponentLink1URL: http://www.ti.com/; ComponentLink2Description: Datasheet; ComponentLink2URL: http://www-s.ti.com/sc/ds/sn74f112.pdf
footprint N016 (DIP; 16 Leads; Row Spacing 7.62 mm; Pitch 2.54 mm)
3D model N016 (DIP; 16 Leads; Row Spacing 7.62 mm; Pitch 2.54 mm)
simulation model SN74F112 (SIMCODE)
signal-integrity model SN74F112N
pins on every part: 8 GND (power) hidden to GND, 16 VCC (power) hidden to VCC
part A pins: 1 CLK (in), 2 K (in), 3 J (in), 4 PR (in), 5 Q (out), 6 ~{Q} (out), 15 CLR (in)
part B pins: 7 ~{Q} (out), 9 Q (out), 10 PR (in), 11 J (in), 12 K (in), 13 CLK (in), 14 CLR (in)

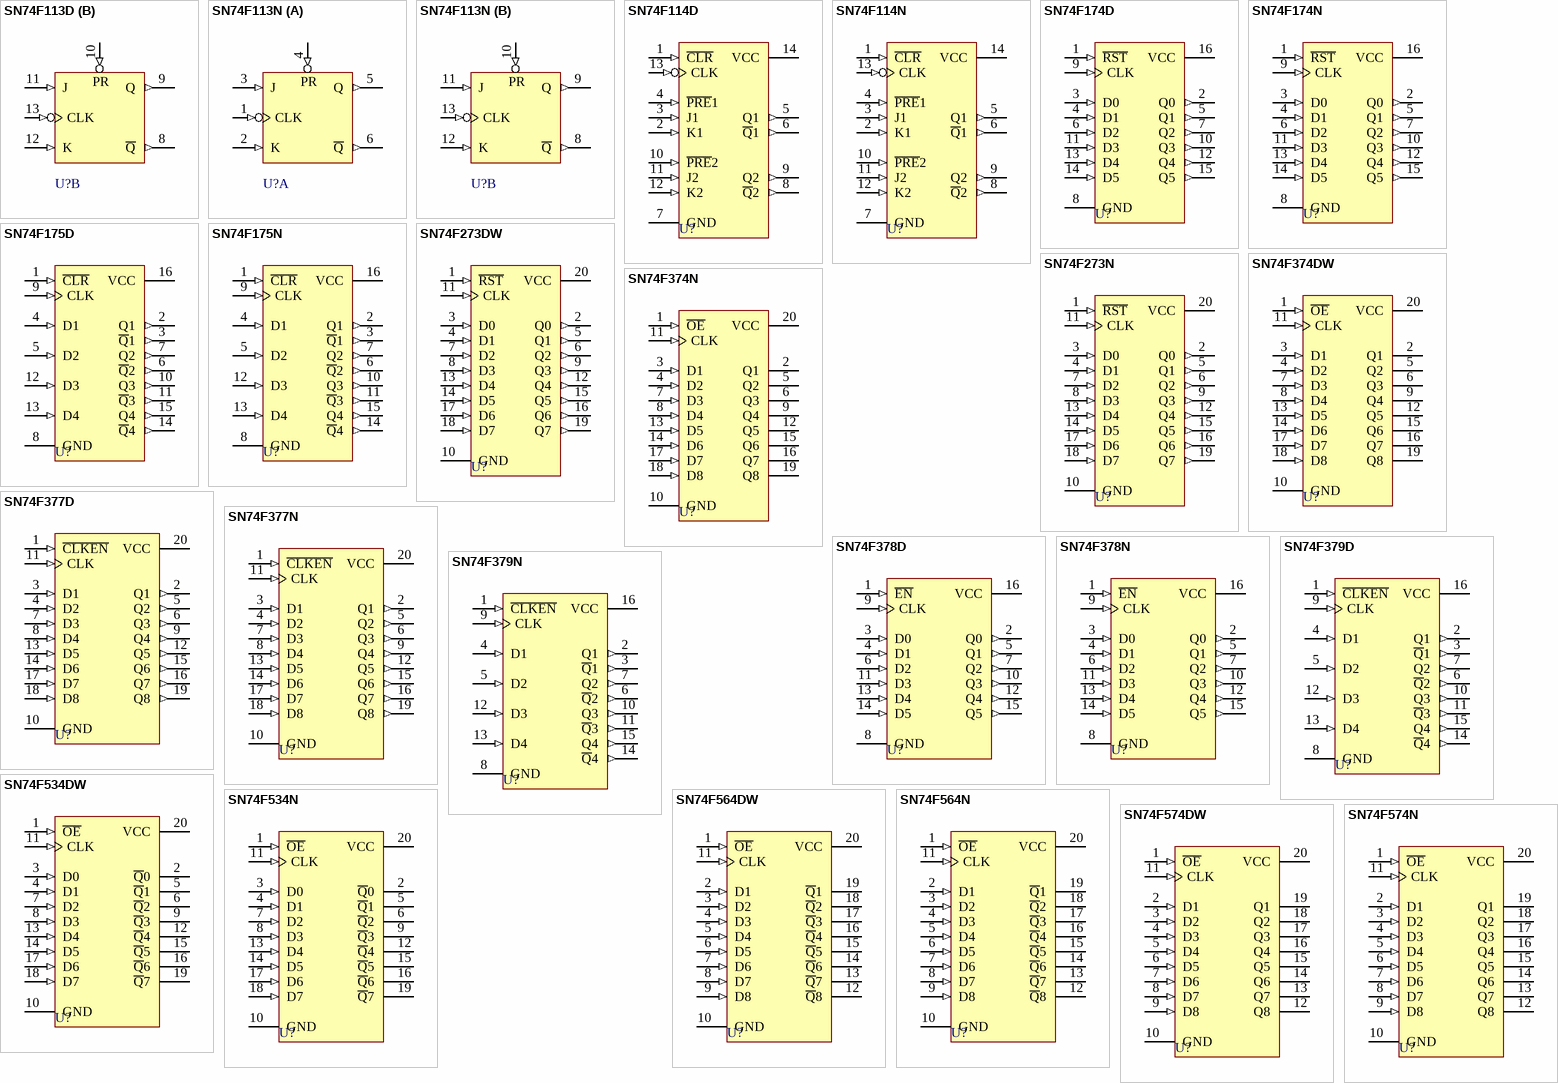
[diagram p24: symbols SN74F113D to SN74F574N]

## SN74F113D
designator U?
Dual J-K Negative-Edge-Triggered Flip-Flop with Preset; Published: 8-Jun-2000; LatestRevisionDate: 13-Apr-2006; LatestRevisionNote: IPC-7351 Footprint Added.; DatasheetVersion: Jan-1989; PackageVersion: Jan-1998; PackageReference: D014; Publisher: Altium Limited; PackageDescription: 14-Pin Small Outline Integrated Circuit 1.27 mm Pitch; Code_IPC: SOIC127P600-14; ComponentLink1Description: Manufacturer Link; ComponentLink1URL: http://www.ti.com/
footprint D014_N (SOIC, 14-Leads, Body 8.7x3.9mm, Pitch 1.27mm, IPC Medium Density)
footprint D014_L (SOIC, 14-Leads, Body 8.7x3.9mm, Pitch 1.27mm, IPC High Density)
footprint D014_M (SOIC, 14-Leads, Body 8.7x3.9mm, Pitch 1.27mm, IPC Low Density)
3D model D014 (14-Pin Small Outline Integrated Circuit 1.27 mm Pitch)
simulation model SN74F113 (SIMCODE)
signal-integrity model SN74F113D
pins on every part: 7 GND (power) hidden to GND, 14 VCC (power) hidden to VCC
part A pins: 1 CLK (in), 2 K (in), 3 J (in), 4 PR (in), 5 Q (out), 6 ~{Q} (out)
part B pins: 8 ~{Q} (out), 9 Q (out), 10 PR (in), 11 J (in), 12 K (in), 13 CLK (in)

## SN74F113N
designator U?
Dual J-K Negative-Edge-Triggered Flip-Flop with Preset; Published: 8-Jun-2000; LatestRevisionDate: 04-Mar-2005; LatestRevisionNote: Stylized 3D Model Added.; DatasheetVersion: Jan-1989; PackageVersion: Oct-1995; PackageReference: N014D; Publisher: Altium Limited; PackageDescription: DIP; 14 Leads; Row Spacing 7.62 mm; Pitch 2.54 mm; ComponentLink1Description: Manufacturer Link; ComponentLink1URL: http://www.ti.com/
footprint N014D (DIP; 14 Leads; Row Spacing 7.62 mm; Pitch 2.54 mm)
3D model N014 (DIP; 14 Leads; Row Spacing 7.62 mm; Pitch 2.54 mm)
simulation model SN74F113 (SIMCODE)
signal-integrity model SN74F113N
pins on every part: 7 GND (power) hidden to GND, 14 VCC (power) hidden to VCC
part A pins: 1 CLK (in), 2 K (in), 3 J (in), 4 PR (in), 5 Q (out), 6 ~{Q} (out)
part B pins: 8 ~{Q} (out), 9 Q (out), 10 PR (in), 11 J (in), 12 K (in), 13 CLK (in)